# Altium footprint library CELTHT(D18h20)PCM7.5.pcbLib: 1 footprints
Each footprint in its own frame and in the unit in brackets; x right, y up, seen from the top. Pads: shape width x height; smd on the part's side, far side on the other; paste and mask are expansions set on the pad; w line width, h text height; cw(c..) or ccw(c..) is an arc to the next point about the centre after c.
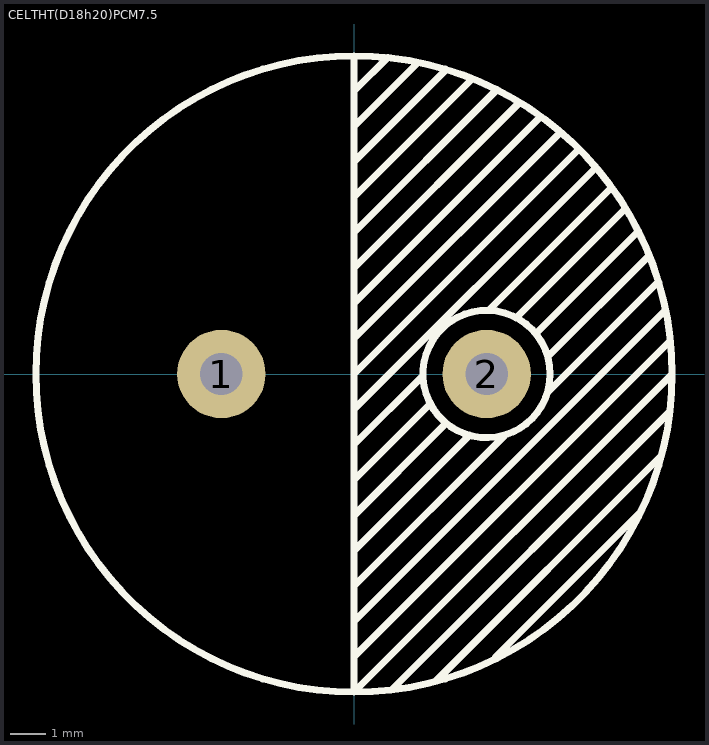
[diagram p0: the footprint, top view; thin cyan lines are the x and y axes]

## CELTHT(D18h20)PCM7.5 [mm] "Electrolytic Capacitors (Radial Lead Type)"
height 20
pads (2):
  round 2.5 hole 1.2: 1(-3.75,0) 2(3.75,0)
Top Overlay:
  circle w0.2: c3.75,0 r1.8
  circle w0.2: c0,0 r9
  lines w0.2: 0,-4.999 0.005,-9 ; 0.001,2.998 4.662,7.659 ; 0.001,4.004 4.038,8.041 ; 0.001,9 0.001,-4.999 3.269,-1.731 ; 0.003,2.003 5.278,7.278 ; 0.034,-3.966 2.522,-1.478 ; 0.045,-8.955 8.962,-0.038 ; 0.045,-7.955 8.936,0.936 ; 0.045,-6.955 8.813,1.813 ; 0.045,-5.955 4.255,-1.745 ; 0.045,5.045 3.327,8.327 ; 0.045,6.045 2.581,8.581 ; 0.045,7.045 1.779,8.779 ; 0.045,8.045 0.955,8.955 ; 0.058,-2.942 2.137,-0.863 ; 0.058,-1.942 1.923,-0.077 ; 0.058,-0.942 6.842,5.842 ; 0.058,0.058 6.364,6.364 ; 0.058,1.058 5.839,6.839 ; 1.088,-8.912 8.933,-1.067 ; 2.297,-8.703 8.698,-2.302 ; 3.802,1.8 7.281,5.279 ; 3.998,-8.002 8.057,-3.943 ; 4.582,1.585 7.683,4.686 ; 5.143,1.143 8.032,4.032 ; 5.492,0.492 8.343,3.343 ; 5.52,-0.48 8.598,2.598
3D body "User Library-CAPAER_D180_L200_P075_W008X030.STEP": height 20.11, standoff -2.9, extent -9,-9 9.01,9